# Altium footprint library LT3652EDD#PBF.PcbLib: 2 footprints
Each footprint in its own frame and in the unit in brackets; x right, y up, seen from the top. Pads: shape width x height; smd on the part's side, far side on the other; paste and mask are expansions set on the pad; w line width, h text height; cw(c..) or ccw(c..) is an arc to the next point about the centre after c.
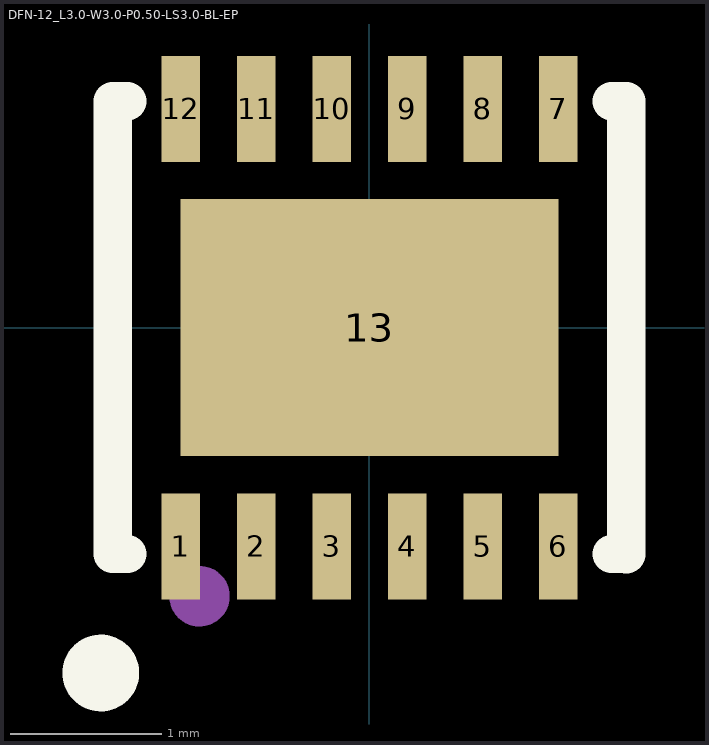
[diagram p0: the footprints below, top view; thin cyan lines are the x and y axes]

## DFN-12_L3.0-W3.0-P0.50-LS3.0-BL-EP [mil]
pads (13):
  rect 10x27.6 smd paste+0 mask+2: 1(-49.21,-57) 2(-29.53,-57) 3(-9.84,-57) 4(9.84,-57) 5(29.52,-57) 6(49.21,-57) 7(49.21,57) 8(29.52,57) 9(9.84,57) 10(-9.84,57) 11(-29.53,57) 12(-49.21,57)
  rect 98.42x66.9 smd paste+0 mask+2: 13(0,0)
Top Overlay:
  circle w10: c-70,-90 r5
  lines w10: -63.1,-59 -66.93,-59 -66.93,59 -63.1,59 ; 63.1,-59 66.93,-59 ; 63.1,59 66.93,59 66.93,-59.06
Mechanical 15:
  circle w7.87: c-44.29,-70 r3.94
3D body "LT3652EDD#PBF.STEP": height 31.5, standoff 0, extent -59,-58.11 59.11,60

## PCBComponent_1 [mil]